# Altium schematic symbol library Diodes-二极管.SchLib: 3 symbols
Pins are listed as number, name and electrical type; pins without a type are passive.

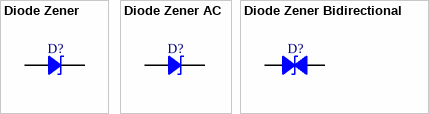
[diagram p0: symbols Diode Zener to Diode Zener Bidirectional]

## Diode Zener
designator D?
pins: 1, 2

## Diode Zener AC
designator D?
pins: A, C

## Diode Zener Bidirectional
designator D?
pins: 1, 2